# Altium footprint library passive.PcbLib: 28 footprints (part 1 of 2)
Each footprint in its own frame and in the unit in brackets; x right, y up, seen from the top. Pads: shape width x height; smd on the part's side, far side on the other; paste and mask are expansions set on the pad; w line width, h text height; cw(c..) or ccw(c..) is an arc to the next point about the centre after c.
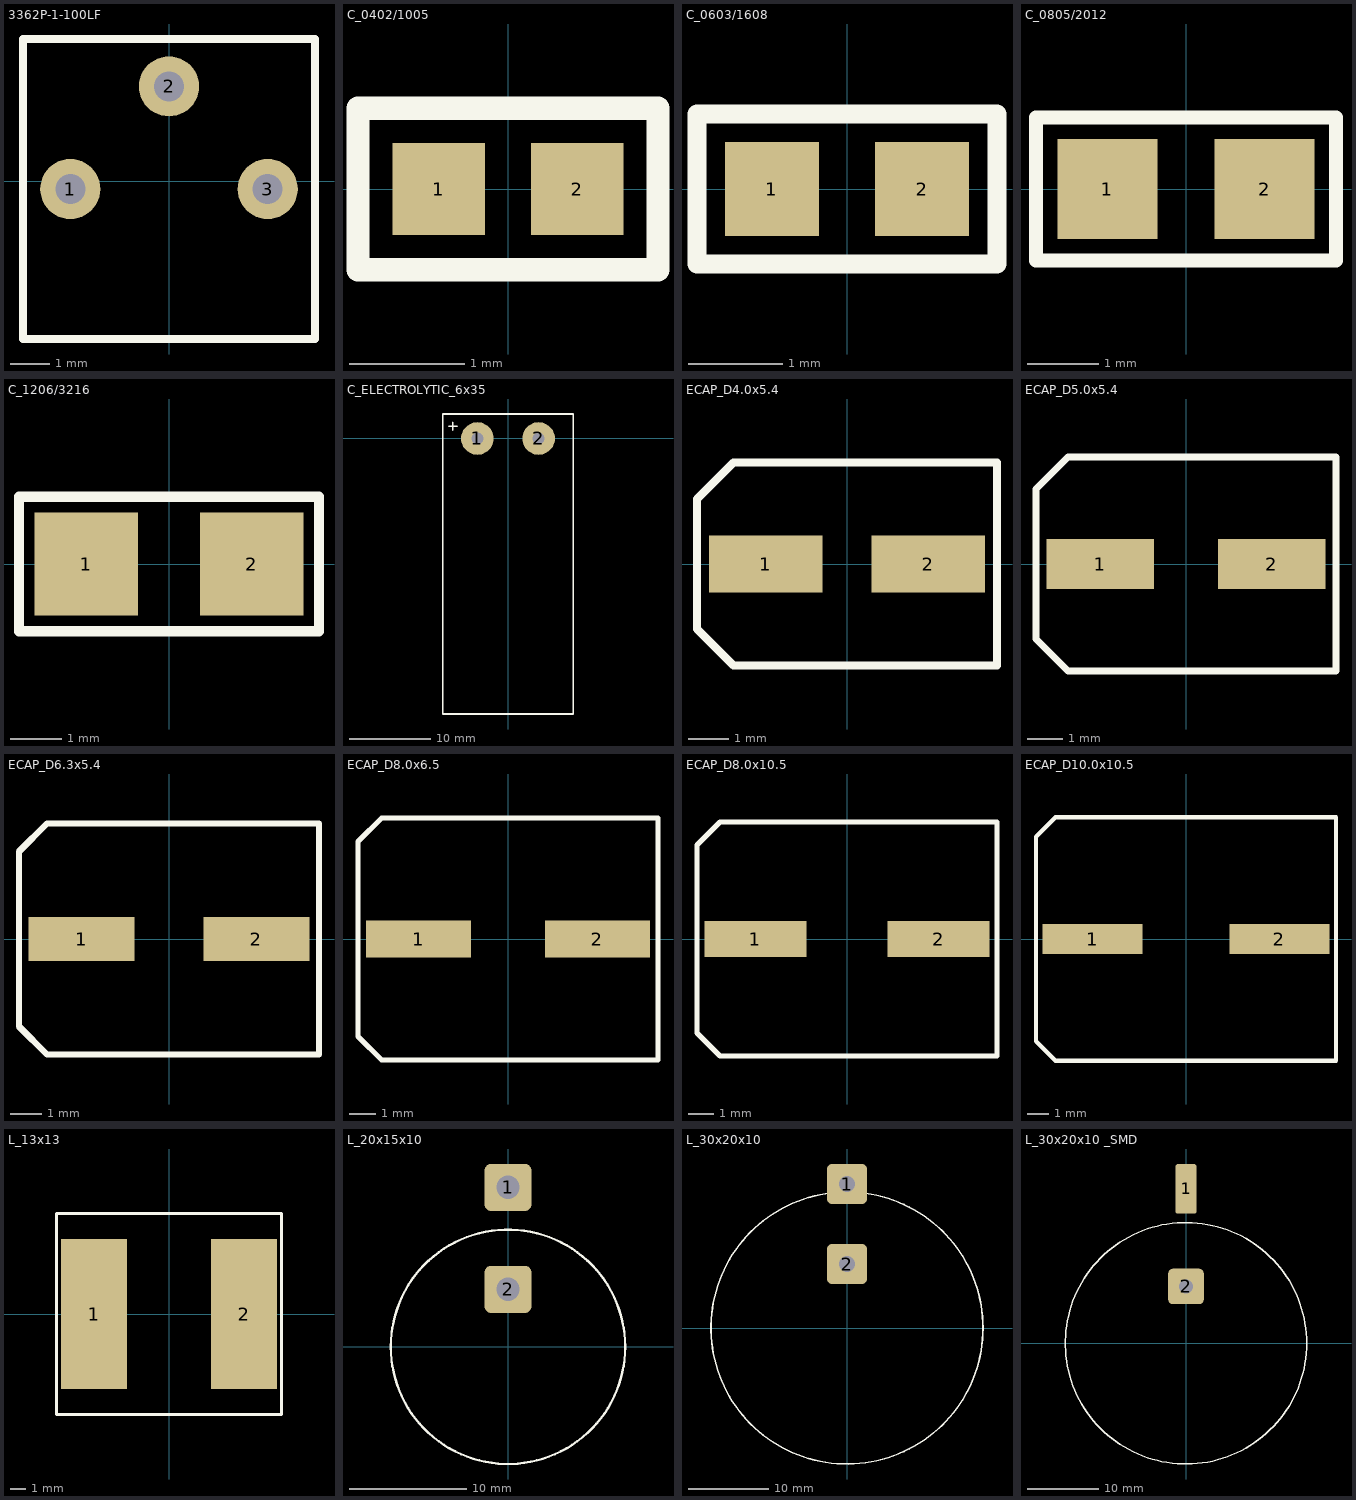
[diagram p0: the footprints below, top view; thin cyan lines are the x and y axes]

## 3362P-1-100LF [mil] "Resistor variable"
pads (3):
  round 60 hole 30 mask+3.94: 1(-98.43,-7.87) 2(0,94.49) 3(98.43,-7.87)
Top Overlay:
  lines w7.87: -145.67,-157.48 145.67,-157.48 145.67,141.73 -145.67,141.73 -145.67,-157.48
3D body "10K,  BOURNS 3362P-103LF.STEP": height 187.01, standoff -122.05, extent -131.1,-145.28 131.1,129.92

## C_0402/1005 [mm] "Capacitor, SMD, 0402 (1005 metric)"
height 0.5
pads (2):
  rect 0.8x0.8 smd mask+0.1: 1(-0.6,0) 2(0.6,0)
Top Overlay:
  lines w0.2: -1.3,-0.7 -1.3,0.7 1.3,0.7 1.3,-0.7 -1.3,-0.7
3D body "C0402_055.step": height 0.55, standoff 0, extent -0.5,-0.25 0.5,0.25

## C_0603/1608 [mm] "Capacitor, SMD, 0603 (1608 metric)"
height 0.9
pads (2):
  rect 1x1 smd mask+0.1: 1(-0.8,0) 2(0.8,0)
Top Overlay:
  lines w0.2: -1.6,-0.8 -1.6,0.8 1.6,0.8 1.6,-0.8 -1.6,-0.8
3D body "C0603_070.step": height 0.7, standoff 0, extent -0.8,-0.4 0.8,0.4

## C_0805/2012 [mm] "Capacitor, SMD, 0805 (2012 metric)"
height 1.2
pads (2):
  rect 1.4x1.4 smd mask+0.1: 1(-1.1,0) 2(1.1,0)
Top Overlay:
  lines w0.2: -2.1,-1 2.1,-1 2.1,1 -2.1,1 -2.1,-1
3D body "C0805_125.step": height 1.25, standoff 0, extent -1,-0.625 1,0.625

## C_1206/3216 [mm] "Capacitor, SMD, 1206 (3216 metric)"
height 1.8
pads (2):
  rect 2x2 smd mask+0.1: 1(-1.6,0) 2(1.6,0)
Top Overlay:
  lines w0.2: -2.9,-1.3 2.9,-1.3 2.9,1.3 -2.9,1.3 -2.9,-1.3
3D body "C1206_145.step": height 1.45, standoff 0, extent -1.6,-0.8 1.6,0.8

## C_ELECTROLYTIC_6x35 [mm] "Polar capacitor, D16x35 mm"
height 16
pads (2):
  round 4 hole 1.5 mask+0.1: 1(-3.75,0) 2(3.75,0)
Top Overlay:
  lines w0.2: -7.253,1.497 -6.253,1.497 ; -6.75,1 -6.75,2 ; -8,-33.75 8,-33.75 8,3 -8,3 -8,-33.75
3D body "cap_el_horizontal_d16_h31.5_pitch7.5_w0.8.stp": height 16.1, standoff -3, extent -8.01,-33.66 8,0.65

## ECAP_D4.0x5.4 [mm] "Ñapacitor, D4.0x5.4, SMD"
pads (2):
  rect 2.8x1.4 smd mask+0.1: 1(-2,0) 2(2,0)
Top Overlay:
  lines w0.2: -3.7,-1.6 -3.7,1.6 -2.8,2.5 3.7,2.5 3.7,-2.5 -2.8,-2.5 -3.7,-1.6
3D body "CAPAE-D4.0x5.4.stp": height 5.5, standoff 0, extent -2.75,-2.25 2.75,2.25

## ECAP_D5.0x5.4 [mm] "Ñapacitor, D5.0x5.4, SMD"
pads (2):
  rect 3x1.4 smd mask+0.1: 1(-2.4,0) 2(2.4,0)
Top Overlay:
  lines w0.2: -4.2,-2.1 -4.2,2.1 -3.3,3 4.2,3 4.2,-3 -3.3,-3 -4.2,-2.1
3D body "CAPAE-D5.0x5.4.stp": height 5.5, standoff 0, extent -3.25,-2.75 3.25,2.75

## ECAP_D6.3x5.4 [mm] "Ñapacitor, D6.3x5.4, SMD"
pads (2):
  rect 3.4x1.4 smd mask+0.1: 1(-2.8,0) 2(2.8,0)
Top Overlay:
  lines w0.2: -4.8,-2.8 -4.8,2.8 -3.9,3.7 4.8,3.7 4.8,-3.7 -3.9,-3.7 -4.8,-2.8
3D body "CAPAE-D6.3x5.4.stp": height 5.5, standoff 0, extent -3.9,-3.4 3.9,3.4

## ECAP_D8.0x6.5 [mm] "Ñapacitor, D8.0x6.5, SMD"
pads (2):
  rect 4x1.4 smd mask+0.1: 1(-3.4,0) 2(3.4,0)
Top Overlay:
  lines w0.2: -5.7,-3.7 -4.8,-4.6 5.7,-4.6 5.7,4.6 -4.8,4.6 -5.7,3.7 -5.7,-3.7
3D body "CAPAE-D8.0x6.5.stp": height 6.5, standoff 0, extent -4.75,-4.25 4.75,4.25

## ECAP_D8.0x10.5 [mm] "Ñapacitor, D8.0x10.5, SMD"
pads (2):
  rect 4x1.4 smd mask+0.1: 1(-3.6,0) 2(3.6,0)
Top Overlay:
  lines w0.2: -5.9,-3.7 -5.9,3.7 -5,4.6 5.9,4.6 5.9,-4.6 -5,-4.6 -5.9,-3.7
3D body "CAPAE-D8.0x10.5.stp": height 10.5, standoff 0, extent -5,-4.25 5,4.25

## ECAP_D10.0x10.5 [mm] "Ñapacitor, D10.0x10.5, SMD"
pads (2):
  rect 4.6x1.4 smd mask+0.1: 1(-4.3,0) 2(4.3,0)
Top Overlay:
  lines w0.2: -6.9,-4.7 -6,-5.6 6.9,-5.6 6.9,5.6 -6,5.6 -6.9,4.7 -6.9,-4.7
3D body "CAPAE-D10.0x10.2.stp": height 10.5, standoff 0, extent -6,-5.25 6,5.25

## L_13x13 [mm] "Inductor SCDS127T"
height 0.5
pads (2):
  rect 4.4x10 smd mask+0.1: 1(-5,0) 2(5,0)
Top Overlay:
  lines w0.2: -7.5,-6.7 -7.5,6.7 7.5,6.7 7.5,-6.7 -7.5,-6.7
3D body "12,8x12,8mm.step": height 8.1, standoff 0, extent -6.485,-6.4 6.484,6.4

## L_20x15x10 [mm] "Inductor, radial"
height 10
pads (2):
  rrect25% 4x4 hole 2 mask+0.1: 1(0,13.6) 2(0,4.9)
Top Overlay:
  circle w0.2: c0,0 r10
3D body "01.STEP": height 12.28, standoff -1.28, extent -12.178,-12.263 12.178,12.263

## L_30x20x10 [mm] "Inductor, radial"
height 10
pads (2):
  rrect25% 5x5 hole 2 mask+0.1: 1(0,18) 2(0,8)
Top Overlay:
  circle w0.2: c0,0 r17
3D body "01.stp": height 17.19, standoff -1.79, extent -17.049,-17.168 17.049,17.168

## L_30x20x10 _SMD [mm] "Inductor, radial"
height 10
pads (2):
  rrect25% 3x7 smd mask+0.1: 1(0,21.75)
  rrect25% 5x5 hole 2 mask+0.1: 2(0,8)
Top Overlay:
  circle w0.2: c0,0 r17
3D body "01.stp": height 17.19, standoff -1.79, extent -17.049,-17.168 17.049,17.168